# Altium integrated library NSD15-12S5.IntLib: 1 symbol
Pins are listed as number, name and electrical type; pins without a type are passive.

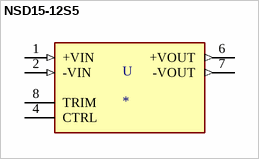
[diagram p0: symbol NSD15-12S5]

## NSD15-12S5
designator U
Isolated Module DC DC Converter 1 Output 5V 3A 9.4V - 36V Input; MP: NSD15-12S5; MF: MEAN WELL; SnapEDA_Link: https://www.snapeda.com/parts/NSD15-12S5/MEAN%20WELL%20USA%20Inc./view-part/356097/?ref=snap; Value: *; Package: DIP-8 Mean Well; Digi-Key_Part_Number: 1866-3633-ND
footprint CONV_NSD15-12S5
pins: 1 +VIN (in), 2 -VIN (in), 4 CTRL, 6 +VOUT (out), 7 -VOUT (out), 8 TRIM